# Altium schematic symbol library B3B-ZR.SchLib: 1 symbol
Pins are listed as number, name and electrical type; pins without a type are passive.

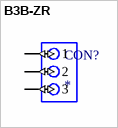
[diagram p0: symbol B3B-ZR]

## B3B-ZR
designator CON?
Connector Header Surface Mount 3 position 0.059 (1.50mm); MF: JST Sales; MP: B3B-ZR; SnapEDA_Link: https://www.snapeda.com/parts/B3B-ZR/JST+Sales+America+Inc./view-part/?ref=snap; Package: None; Value: *; Check_prices: https://www.snapeda.com/parts/B3B-ZR/JST+Sales+America+Inc./view-part/?ref=eda
footprint B3B-ZR
pins: 1 (io), 2 (io), 3 (io)